# EAGLE library part GYRO_TRI_CON (library SUCHAI)
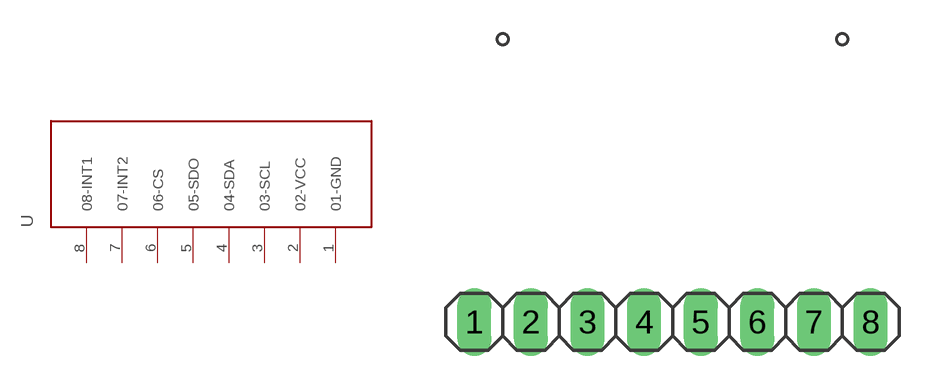
[diagram p2: symbol with the pads of 1X08; footprint 1X08]

Designator prefix -

## GYRO_TRI_CON  [1X08]
1  01-GND
2  02-VCC
3  03-SCL
4  04-SDA
5  05-SDO
6  06-CS
7  07-INT2
8  08-INT1

## Footprint 1X08 (pad centres in mm)
Pin header for Sparkfun's 3-axis digital gyroscope. Pitch : 2.54 mm / 0.1 inches Includes two references for drilling mounting holes.
drill 1.016 long: 1 -8.89,0; 2 -6.35,0; 3 -3.81,0; 4 -1.27,0; 5 1.27,0; 6 3.81,0; 7 6.35,0; 8 8.89,0